# Altium footprint library 色环电阻.PcbLib: 33 footprints (part 3 of 3)
Each footprint in its own frame and in the unit in brackets; x right, y up, seen from the top. Pads: shape width x height; smd on the part's side, far side on the other; paste and mask are expansions set on the pad; w line width, h text height; cw(c..) or ccw(c..) is an arc to the next point about the centre after c.
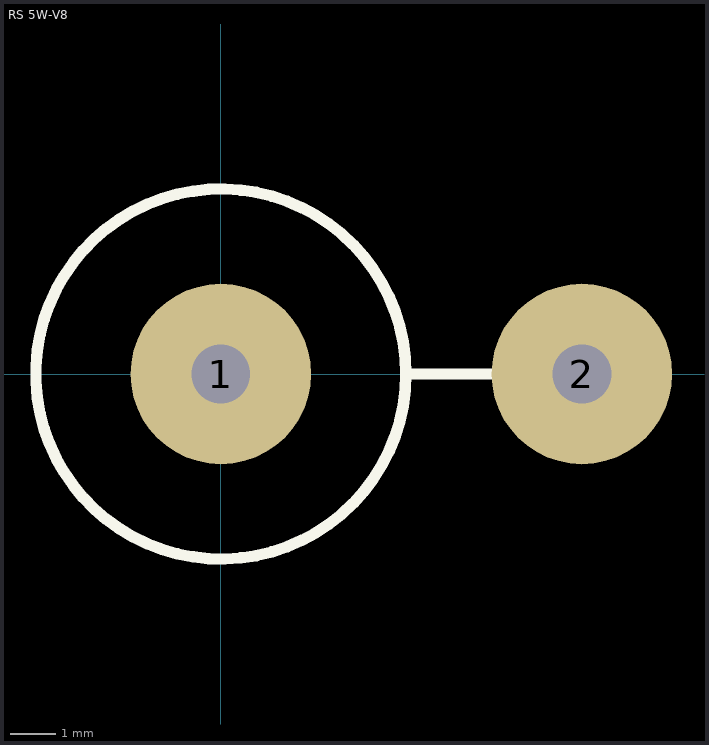
[diagram p2: the footprint, top view; thin cyan lines are the x and y axes]

## RS 5W-V8 [mm] "直插色环电阻，脚距8mm，直径8mm"
pads (2):
  round 4 hole 1.3: 1(0,0) 2(8,0)
Top Overlay:
  circle w0.254: c0,0 r4.1
  lines w0.254: 4.1,0 6.25,0
Mechanical 15:
  circle w0.05: c0,0 r0.35
  lines w0.05: -0.5,0 0.5,0 ; 0,-0.5 0,0.5
3D body "RS 5W-V8.STEP": height 27.3, standoff -3.5, extent -4.01,-4.01 8.5,4.01